# Altium footprint library EnergyHarvester_2012.PcbLib: 27 footprints (part 1 of 2)
Each footprint in its own frame and in the unit in brackets; x right, y up, seen from the top. Pads: shape width x height; smd on the part's side, far side on the other; paste and mask are expansions set on the pad; w line width, h text height; cw(c..) or ccw(c..) is an arc to the next point about the centre after c.
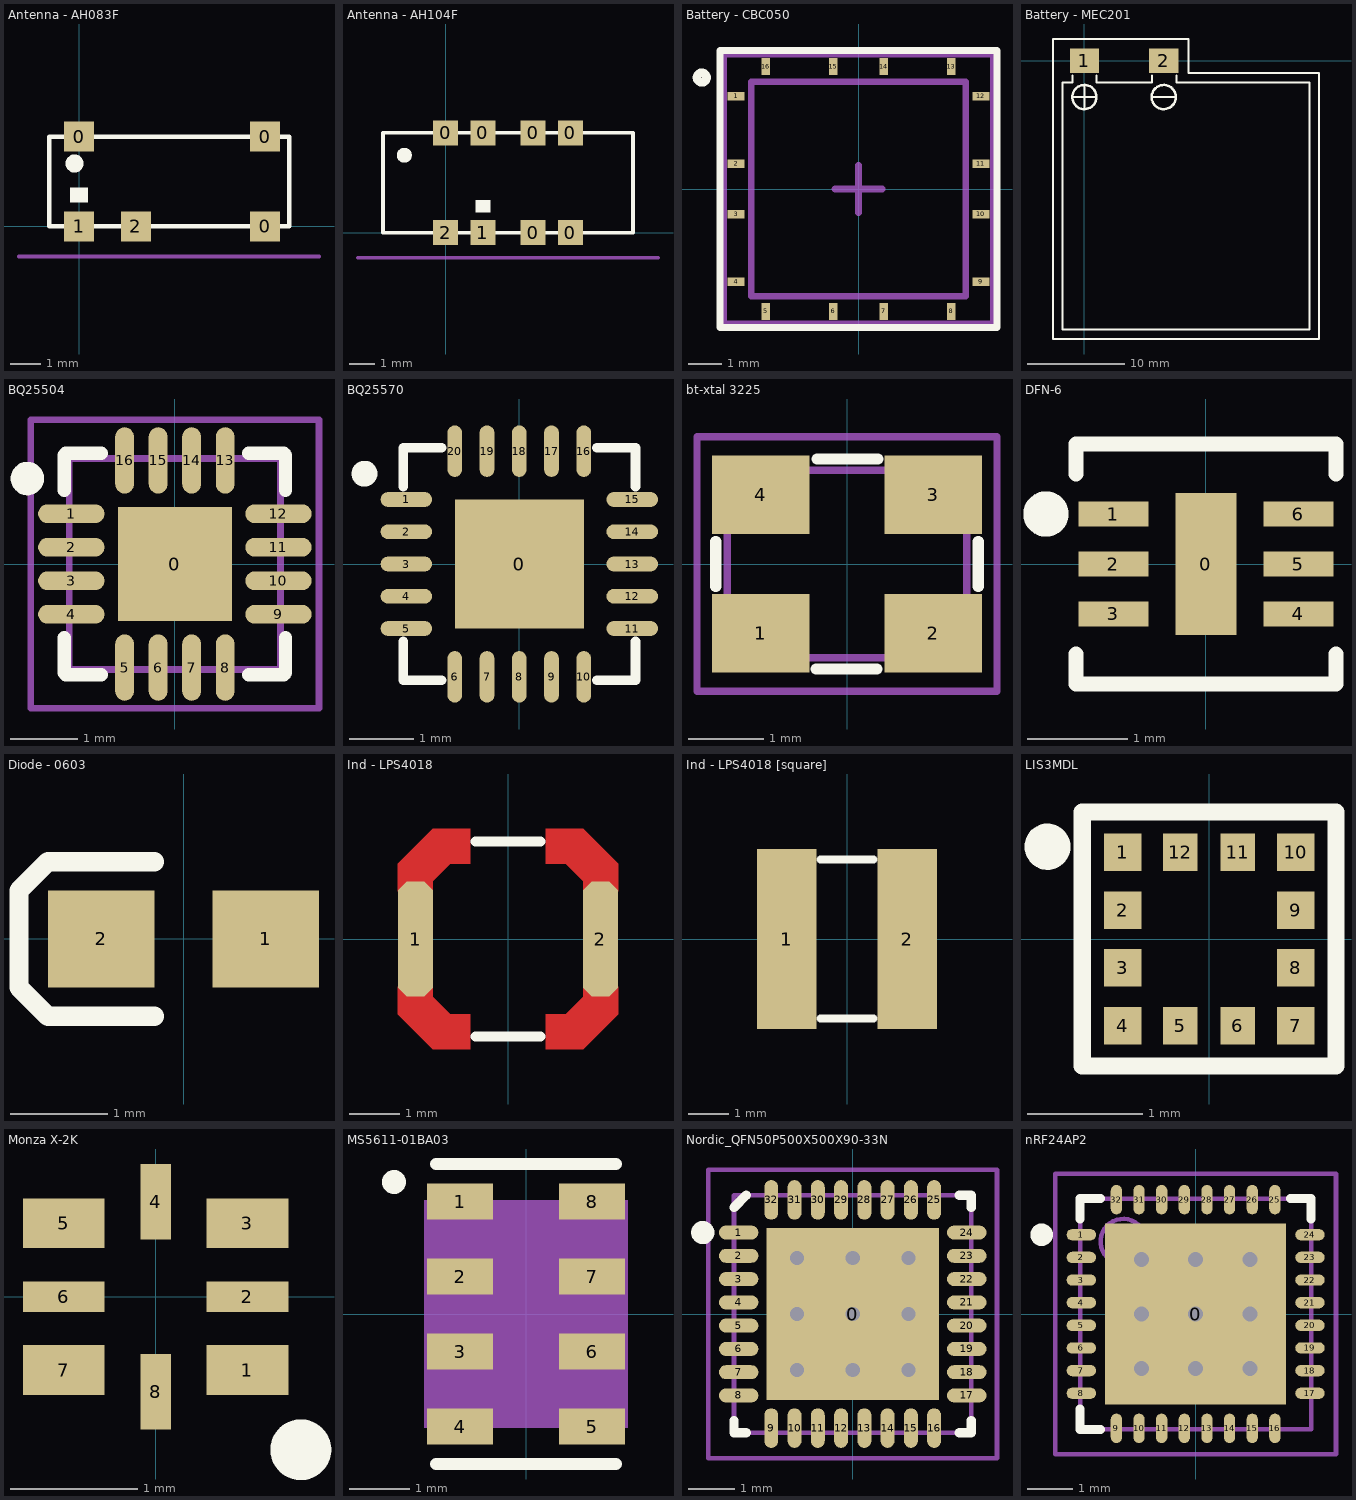
[diagram p0: the footprints below, top view; thin cyan lines are the x and y axes]

## Antenna - AH083F [mm] "2.4GHz Chip Antenna - Taiyo Yuden - AH083F245001-T"
height 1
pads (5):
  rect 1x1 smd: 0(0,3) 0(6.2,0) 0(6.2,3) 1(0,0) 2(1.9,0)
Top Overlay:
  circle w0.3: c-0.15,2.1 r0.15
  rectangle: -0.3,0.8 0.3,1.3
  lines w0.15: -1,0 -1,3 7,3 7,0 -1,0
Mechanical 3:
  lines w0.15: -2,-1 8,-1
Mechanical 13:
  text ".Designator" at 0.7,1.3 h0.76
3D body: height 1, standoff 0, extent -1,0 7,3

## Antenna - AH104F [mm] "2.4GHz Chip Antenna - Taiyo Yuden - AH104F2450S1-T"
height 1
pads (8):
  rect 1x1 smd: 0(0,4) 0(1.5,4) 0(3.5,0) 0(3.5,4) 0(5,0) 0(5,4) 1(1.5,0) 2(0,0)
Top Overlay:
  circle w0.3: c-1.65,3.1 r0.15
  rectangle: 1.2,0.8 1.8,1.3
  lines w0.15: -2.5,0 7.5,0 7.5,4 -2.5,4 -2.5,0
Mechanical 3:
  lines w0.15: -3.5,-1 8.5,-1
Mechanical 13:
  text ".Designator" at -1.5,1.7 h0.76
3D body: height 1, standoff 0, extent -2.5,0 7.5,4

## Battery - CBC050 [mm] "Rechargeable Solid State Energy Storage: 50µAh, 3.8V"
height 0.9
pads (16):
  rect 0.5x0.25 smd: 1(-3.625,2.75) 2(-3.625,0.75) 3(-3.625,-0.75) 4(-3.625,-2.75) 9(3.625,-2.75) 10(3.625,-0.75) 11(3.625,0.75) 12(3.625,2.75)
  rect 0.25x0.5 smd: 5(-2.75,-3.625) 6(-0.75,-3.625) 7(0.75,-3.625) 8(2.75,-3.625) 13(2.75,3.625) 14(0.75,3.625) 15(-0.75,3.625) 16(-2.75,3.625)
Top Overlay:
  circle w0.254: c-4.641,3.3 r0.141
  lines w0.2: -4.1,-4.1 4.1,-4.1 4.1,4.1 -4.1,4.1 -4.1,-4.1
Mechanical 13:
  lines w0.2: -4,-4 -4,4 4,4 4,-4 -4,-4
Mechanical 15:
  lines w0.2: -0.7,0 0.7,0 ; 0,-0.7 0,0.7 ; -3.175,-3.175 -3.175,3.175 3.175,3.175 3.175,-3.175 -3.175,-3.175
3D body: height 0.9, standoff 0, extent -4,-4 4,4

## Battery - MEC201 [mm] "Thin-Film Battery - 25.4 x 25.4 x 0.170mm"
height 0.17
pads (2):
  rect 3x2.5 smd: 1(0,0) 2(8.2,0)
Top Overlay:
  circle w0.254: c8.2,-3.75 r1.25
  circle w0.254: c0,-3.75 r1.25
  lines w0.2: -1.25,-3.75 1.25,-3.75 ; -1.25,-1.5 -1.25,-2.25 -1.5,-2.25 -2.25,-2.25 -2.25,-27.75 23.25,-27.75 23.25,-2.25 9.5,-2.25 9.5,-1.5 ; 0,-5 0,-2.5 ; 1.25,-1.5 1.25,-2.25 7,-2.25 7,-1.5 ; 7,-3.75 9.45,-3.75 ; -3.25,-28.75 24.25,-28.75 24.25,-1.25 10.75,-1.25 10.75,2.25 -3.25,2.25 -3.25,-1.25 -3.25,-28.75

## BQ25504 [mm] "QFN, 16-Leads, Body 3.2x3.2mm (max)"
height 1
pads (17):
  rect 1.7x1.7 smd: 0(0,0)
  oval 0.99x0.28 smd: 1(-1.545,0.75) 2(-1.545,0.25) 3(-1.545,-0.25) 4(-1.545,-0.75) 9(1.545,-0.75) 10(1.545,-0.25) 11(1.545,0.25) 12(1.545,0.75)
  oval 0.28x0.99 smd: 5(-0.75,-1.545) 6(-0.25,-1.545) 7(0.25,-1.545) 8(0.75,-1.545) 13(0.75,1.545) 14(0.25,1.545) 15(-0.25,1.545) 16(-0.75,1.545)
Top Overlay:
  circle w0.25: c-2.2,1.275 r0.125
  lines w0.2: -1.65,-1.1 -1.65,-1.625 -1.625,-1.65 -1.1,-1.65 ; -1.65,1.1 -1.65,1.625 -1.625,1.65 -1.1,1.65 ; 1.1,-1.65 1.625,-1.65 1.65,-1.625 1.65,-1.1 ; 1.1,1.65 1.625,1.65 1.65,1.625 1.65,1.1
Mechanical 13:
  lines w0.1: -1.575,-1.575 -1.575,1.575 1.575,1.575 1.575,-1.575 -1.575,-1.575
Mechanical 15:
  lines w0.1: -0.5,0 0.5,0 ; 0,-0.5 0,0.5 ; -2.15,-2.15 -2.15,2.15 2.15,2.15 2.15,-2.15 -2.15,-2.15
3D body: height 1, standoff 0.08, extent -1.575,-1.575 1.575,1.575

## BQ25570 [mm] "QFN, 20-Leads, Body 3.5x3.5mm"
height 1
pads (21):
  rect 2x2 smd: 0(0,0)
  oval 0.8x0.23 smd: 1(-1.75,1) 2(-1.75,0.5) 3(-1.75,0) 4(-1.75,-0.5) 5(-1.75,-1) 11(1.75,-1) 12(1.75,-0.5) 13(1.75,0) 14(1.75,0.5) 15(1.75,1)
  oval 0.23x0.8 smd: 6(-1,-1.75) 7(-0.5,-1.75) 8(0,-1.75) 9(0.5,-1.75) 10(1,-1.75) 16(1,1.75) 17(0.5,1.75) 18(0,1.75) 19(-0.5,1.75) 20(-1,1.75)
Top Overlay:
  circle w0.2: c-2.4,1.4 r0.1
  lines w0.15: -1.8,-1.2 -1.8,-1.8 -1.2,-1.8 ; -1.8,1.2 -1.8,1.8 -1.2,1.8 ; 1.2,-1.8 1.8,-1.8 1.8,-1.2 ; 1.2,1.8 1.8,1.8 1.8,1.2
Mechanical 13:
  circle w0.1: c-1.75,1 r0.05
  text ".Designator" at -1.2,-0.1 h0.76
3D body: height 1, standoff 0, extent -1.75,-1.75 1.75,1.75

## bt-xtal 3225 [mm]
pads (4):
  rect 1.3x1.05 smd: 1(-1.15,-0.925) 2(1.15,-0.925) 3(1.15,0.925) 4(-1.15,0.925)
Top Overlay:
  lines w0.152: -1.75,-0.3 -1.75,0.3 ; -0.413,-1.4 0.4,-1.4 ; -0.4,1.4 0.413,1.4 ; 1.75,-0.3 1.75,0.3
Mechanical 13:
  lines w0.1: -1.6,-1.25 -1.6,1.25 1.6,1.25 1.6,-1.25 -1.6,-1.25
Mechanical 15:
  lines w0.1: -2,-1.7 -2,1.7 2,1.7 2,-1.7 -2,-1.7
3D body: height 0.6, standoff 0, extent -1.6,-1.25 1.6,1.25

## DFN-6 [mm] "6 Pin DFN with GND pad"
height 0.75
pads (7):
  rect 0.61x1.42 smd: 0(0,0)
  rect 0.7x0.25 smd: 1(-0.925,0.5) 2(-0.925,0) 3(-0.925,-0.5) 4(0.925,-0.5) 5(0.925,0) 6(0.925,0.5)
Top Overlay:
  circle w0.254: c-1.6,0.5 r0.1
  lines w0.15: -1.3,-0.9 -1.3,-1.2 1.3,-1.2 1.3,-0.9 ; -1.3,0.9 -1.3,1.2 1.3,1.2 1.3,0.9
Mechanical 13:
  circle w0.1: c-0.95,0.5 r0.05
  text ".Designator" at -0.3,0.9 h0.51
3D body: height 0.75, standoff 0, extent -1,-1 1,1

## Diode - 0603 [mm] "Diode: Body 1.6 x 0.8 mm (LxW typ)"
height 0.87
pads (2):
  rect 1.1x1 smd: 1(0.85,0) 2(-0.85,0)
Top Overlay:
  lines w0.2: -0.3,-0.8 -1.4,-0.8 -1.7,-0.5 -1.7,0.4 -1.7,0.5 -1.4,0.8 -0.3,0.8

## Ind - LPS4018 [mm] "Coilcraft - LPS4018 Series Low Profile  Shielded Power Inductors"
height 1.7
pads (2):
  oct 0.7x2.3 smd: 1(-1.85,0) 2(1.85,0)
Top Layer:
  region: 0.75,2.2 1.5,2.2 2.2,1.5 2.2,0.95 1.5,0.95 1.5,1.15 1.15,1.5 0.75,1.5
  region: -0.75,2.2 -1.5,2.2 -2.2,1.5 -2.2,0.95 -1.5,0.95 -1.5,1.15 -1.15,1.5 -0.75,1.5
  region: 0.75,-2.2 1.5,-2.2 2.2,-1.5 2.2,-0.95 1.5,-0.95 1.5,-1.15 1.15,-1.5 0.75,-1.5
  region: -0.75,-2.2 -1.5,-2.2 -2.2,-1.5 -2.2,-0.95 -1.5,-0.95 -1.5,-1.15 -1.15,-1.5 -0.75,-1.5
Top Overlay:
  lines w0.2: -0.65,-1.95 0.65,-1.95 ; -0.65,1.95 0.65,1.95
Top Solder:
  region: 0.65,2.3 1.55,2.3 2.3,1.55 2.3,0.95 1.4,0.95 1.4,1.1 1.1,1.4 0.65,1.4
  region: -0.65,2.3 -1.55,2.3 -2.3,1.55 -2.3,0.95 -1.4,0.95 -1.4,1.1 -1.1,1.4 -0.65,1.4
  region: -0.65,2.3 -1.55,2.3 -2.3,1.55 -2.3,0.95 -1.4,0.95 -1.4,1.1 -1.1,1.4 -0.65,1.4
  region: 0.65,2.3 1.55,2.3 2.3,1.55 2.3,0.95 1.4,0.95 1.4,1.1 1.1,1.4 0.65,1.4
  region: 0.65,-2.3 1.55,-2.3 2.3,-1.55 2.3,-0.95 1.4,-0.95 1.4,-1.1 1.1,-1.4 0.65,-1.4
  region: -0.65,-2.3 -1.55,-2.3 -2.3,-1.55 -2.3,-0.95 -1.4,-0.95 -1.4,-1.1 -1.1,-1.4 -0.65,-1.4
3D body: height 1.7, standoff 0, extent -2.05,-2.05 2.05,2.05

## Ind - LPS4018 [square] [mm] "Coilcraft - LPS4018 Series Low Profile  Shielded Power Inductors"
height 1.7
pads (2):
  rect 1.45x4.4 smd: 1(-1.475,0) 2(1.475,0)
Top Overlay:
  lines w0.2: -0.65,-1.95 0.65,-1.95 ; -0.65,1.95 0.65,1.95
Top Solder:
  region: 0.65,2.3 1.55,2.3 2.3,1.55 2.3,0.95 1.4,0.95 1.4,1.1 1.1,1.4 0.65,1.4
  region: -0.65,2.3 -1.55,2.3 -2.3,1.55 -2.3,0.95 -1.4,0.95 -1.4,1.1 -1.1,1.4 -0.65,1.4
  region: -0.65,2.3 -1.55,2.3 -2.3,1.55 -2.3,0.95 -1.4,0.95 -1.4,1.1 -1.1,1.4 -0.65,1.4
  region: 0.65,2.3 1.55,2.3 2.3,1.55 2.3,0.95 1.4,0.95 1.4,1.1 1.1,1.4 0.65,1.4
  region: 0.65,-2.3 1.55,-2.3 2.3,-1.55 2.3,-0.95 1.4,-0.95 1.4,-1.1 1.1,-1.4 0.65,-1.4
  region: -0.65,-2.3 -1.55,-2.3 -2.3,-1.55 -2.3,-0.95 -1.4,-0.95 -1.4,-1.1 -1.1,-1.4 -0.65,-1.4
3D body: height 1.7, standoff 0, extent -2.05,-2.05 2.05,2.05

## LIS3MDL [mm] "VFLGA 2x2x1 12LD"
height 1
pads (12):
  rect 0.325x0.325 smd: 1(-0.75,0.75) 2(-0.75,0.25) 3(-0.75,-0.25) 4(-0.75,-0.75) 7(0.75,-0.75) 8(0.75,-0.25) 9(0.75,0.25) 10(0.75,0.75)
  rect 0.3x0.325 smd: 5(-0.25,-0.75) 6(0.25,-0.75) 11(0.25,0.75) 12(-0.25,0.75)
Top Overlay:
  circle w0.2: c-1.4,0.8 r0.1
  lines w0.15: -1.1,-1.1 -1.1,1.1 1.1,1.1 1.1,-1.1 -1.1,-1.1
Mechanical 13:
  circle w0.15: c-0.75,0.75 r0.075
  text ".Designator" at -0.4,-0.2 h0.38
3D body: height 1, standoff 0, extent -1,-1 1,1

## Monza X-2K [mm] "Impinj Monza X-2K Dura, RFID tag with I2C interface"
height 0.5
pads (8):
  rect 0.64x0.39 smd: 1(0.72,-0.575) 3(0.72,0.575) 5(-0.72,0.575) 7(-0.72,-0.575)
  rect 0.64x0.24 smd: 2(0.72,0) 6(-0.72,0)
  rect 0.24x0.59 smd: 4(0,0.745) 8(0,-0.745)
Top Overlay:
  circle w0.254: c1.138,-1.2 r0.112
3D body: height 0.5, standoff 0, extent -0.8,-0.8 0.8,0.8

## MS5611-01BA03 [mm] "MS5611-01BA - pressure sensor"
height 1
pads (8):
  rect 1.1x0.6 smd: 1(-1.1,1.875) 2(-1.1,0.625) 3(-1.1,-0.625) 4(-1.1,-1.875) 5(1.1,-1.875) 6(1.1,-0.625) 7(1.1,0.625) 8(1.1,1.875)
Top Overlay:
  circle w0.2: c-2.2,2.2 r0.1
  lines w0.2: -1.5,-2.5 1.5,-2.5 ; -1.5,2.5 1.5,2.5
Mechanical 13:
  circle w0.2: c-1.1,1.875 r0.1
  text ".Designator" at -0.4,2.2 h0.76
Mechanical 15:
  rectangle: -1.7,-1.9 1.7,1.9
3D body: height 1, standoff 0, extent -1.5,-2.5 1.5,2.5

## Nordic_QFN50P500X500X90-33N [mm]
height 0.85
pads (33):
  rect 3.7x3.7 smd: 0(0,0)
  oval 0.85x0.3 smd: 1(-2.45,1.75) 2(-2.45,1.25) 3(-2.45,0.75) 4(-2.45,0.25) 5(-2.45,-0.25) 6(-2.45,-0.75) 7(-2.45,-1.25) 8(-2.45,-1.75) 17(2.45,-1.75) 18(2.45,-1.25) 19(2.45,-0.75) 20(2.45,-0.25) 21(2.45,0.25) 22(2.45,0.75) 23(2.45,1.25) 24(2.45,1.75)
  oval 0.3x0.85 smd: 9(-1.75,-2.45) 10(-1.25,-2.45) 11(-0.75,-2.45) 12(-0.25,-2.45) 13(0.25,-2.45) 14(0.75,-2.45) 15(1.25,-2.45) 16(1.75,-2.45) 25(1.75,2.45) 26(1.25,2.45) 27(0.75,2.45) 28(0.25,2.45) 29(-0.25,2.45) 30(-0.75,2.45) 31(-1.25,2.45) 32(-1.75,2.45)
via 0,0 diameter 0.61 hole 0.305
via -1.2,0 diameter 0.61 hole 0.305
via 1.2,0 diameter 0.61 hole 0.305
via 1.2,1.2 diameter 0.61 hole 0.305
via 1.2,-1.2 diameter 0.61 hole 0.305
via 0,1.2 diameter 0.61 hole 0.305
via -1.2,1.2 diameter 0.61 hole 0.305
via 0,-1.2 diameter 0.61 hole 0.305
via -1.2,-1.2 diameter 0.61 hole 0.305
Top Overlay:
  circle w0.25: c-3.22,1.75 r0.125
  lines w0.2: -2.55,-2.29 -2.55,-2.55 -2.29,-2.55 ; -2.55,2.29 -2.29,2.55 ; 2.29,-2.55 2.55,-2.55 2.55,-2.29 ; 2.29,2.55 2.55,2.55 2.55,2.29
Mechanical 13:
  lines w0.1: -2.55,-2.55 2.55,-2.55 2.55,2.55 -2.55,2.55 -2.55,-2.55
Mechanical 15:
  lines w0.1: -3.1,-3.1 3.1,-3.1 3.1,3.1 -3.1,3.1 -3.1,-3.1
3D body: height 0.85, standoff 0.02, extent -2.55,-2.55 2.55,2.55

## nRF24AP2 [mm] "RF Transceiver SNGL-CHP ANT SOL W"
height 0.85
pads (33):
  rect 4x4 smd: 0(0,0)
  oval 0.65x0.25 smd: 1(-2.525,1.75) 2(-2.525,1.25) 3(-2.525,0.75) 4(-2.525,0.25) 5(-2.525,-0.25) 6(-2.525,-0.75) 7(-2.525,-1.25) 8(-2.525,-1.75) 17(2.525,-1.75) 18(2.525,-1.25) 19(2.525,-0.75) 20(2.525,-0.25) 21(2.525,0.25) 22(2.525,0.75) 23(2.525,1.25) 24(2.525,1.75)
  oval 0.25x0.65 smd: 9(-1.75,-2.525) 10(-1.25,-2.525) 11(-0.75,-2.525) 12(-0.25,-2.525) 13(0.25,-2.525) 14(0.75,-2.525) 15(1.25,-2.525) 16(1.75,-2.525) 25(1.75,2.525) 26(1.25,2.525) 27(0.75,2.525) 28(0.25,2.525) 29(-0.25,2.525) 30(-0.75,2.525) 31(-1.25,2.525) 32(-1.75,2.525)
via -1.2,1.2 diameter 0.66 hole 0.33
via 0,1.2 diameter 0.66 hole 0.33
via 1.2,1.2 diameter 0.66 hole 0.33
via -1.2,0 diameter 0.66 hole 0.33
via 0,0 diameter 0.66 hole 0.33
via 1.2,0 diameter 0.66 hole 0.33
via -1.2,-1.2 diameter 0.66 hole 0.33
via 0,-1.2 diameter 0.66 hole 0.33
via 1.2,-1.2 diameter 0.66 hole 0.33
Top Overlay:
  circle w0.25: c-3.4,1.75 r0.125
  lines w0.2: -2.55,-2.1 -2.55,-2.55 -2.1,-2.55 ; -2.55,2.1 -2.55,2.55 -2.1,2.55 ; 2.1,2.55 2.55,2.55 2.55,2.1
Mechanical 13:
  circle w0.1: c-1.6,1.6 r0.5
  lines w0.1: -2.55,-2.55 -2.55,2.55 2.55,2.55 2.55,-2.55 -2.55,-2.55
Mechanical 15:
  lines w0.1: -0.5,0 0.5,0 ; 0,-0.5 0,0.5 ; -3.1,-3.1 -3.1,3.1 3.1,3.1 3.1,-3.1 -3.1,-3.1
3D body: height 0.85, standoff 0.02, extent -2.55,-2.55 2.55,2.55